# Altium integrated library Resistors.IntLib: 4954 symbols (part 11 of 32)
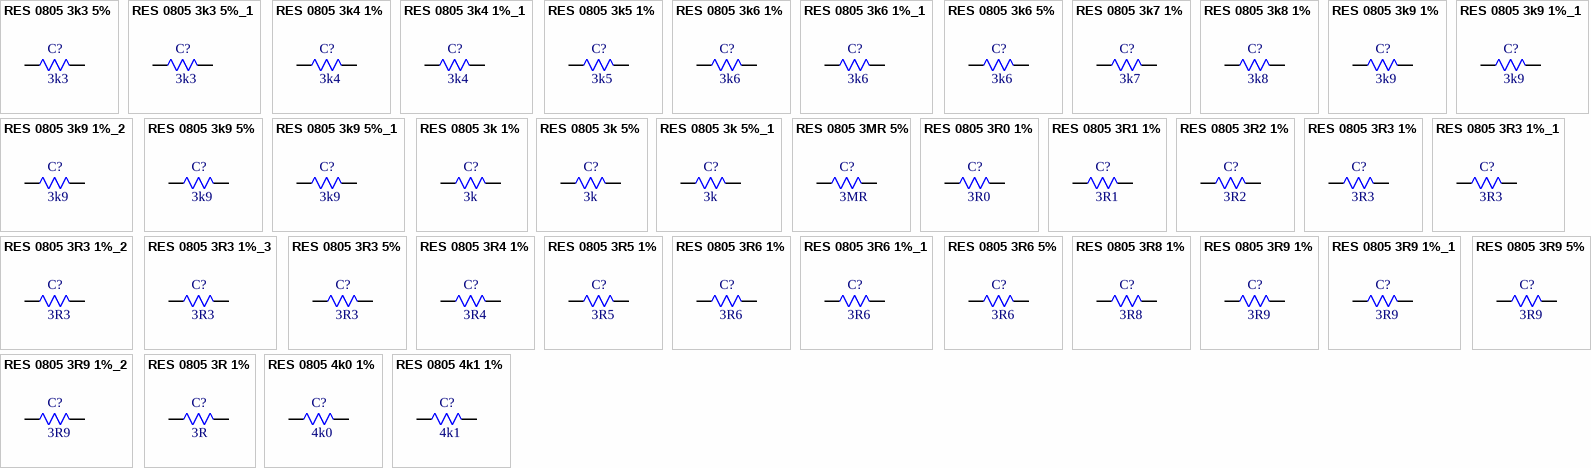
[diagram p133: symbols RES 0805 3k3 5% to RES 0805 4k1 1%]

## RES 0805 4k1 1%
designator C?, comment 4k1
4.12kR 1% 125mW 0805 Thick Film Resistor; Manufacturer: FOJAN; Manufacturer Part Number: FRC0805F4121TS; Voltage Rating: 150V; Supplier: LCSC; Supplier Part Number: C2960751; Resistance: 4k1; Tolerance: 1%; Power: 125mW
footprint RES SMD 0805
pins: 1, 2

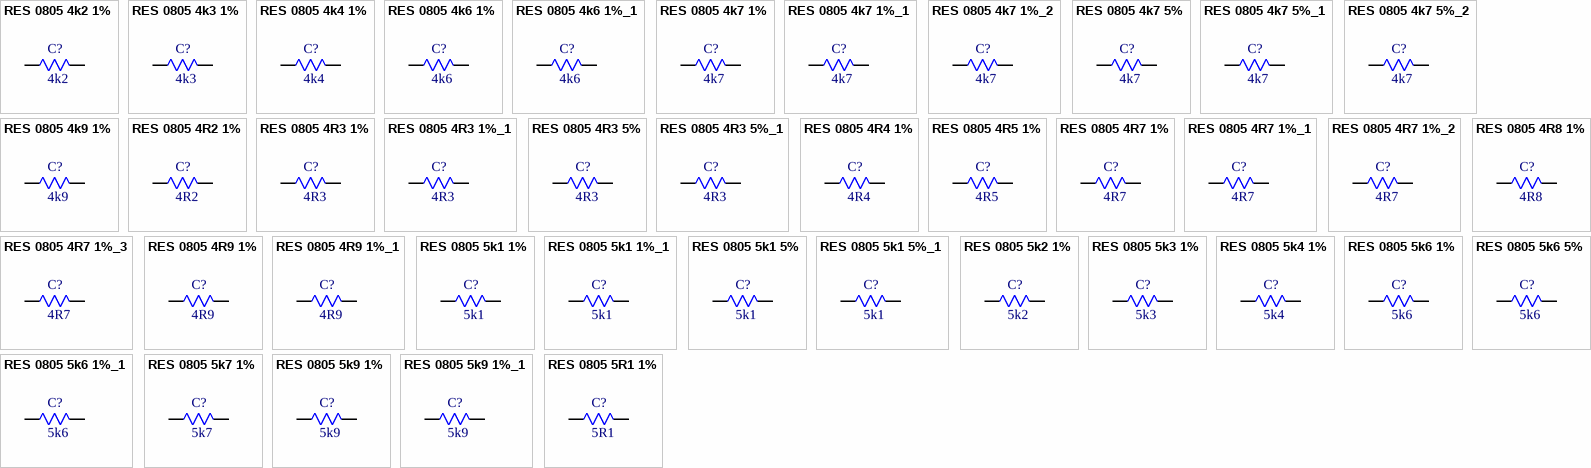
[diagram p40: symbols RES 0805 4k2 1% to RES 0805 5R1 1%]

## RES 0805 4k2 1%
designator C?, comment 4k2
4.22kR 1% 125mW 0805 Thick Film Resistor; Manufacturer: FOJAN; Manufacturer Part Number: FRC0805F4221TS; Voltage Rating: 150V; Supplier: LCSC; Supplier Part Number: C2933442; Resistance: 4k2; Tolerance: 1%; Power: 125mW
footprint RES SMD 0805
pins: 1, 2

## RES 0805 4k3 1%
designator C?, comment 4k3
4.32kR 1% 125mW 0805 Thick Film Resistor; Manufacturer: FOJAN; Manufacturer Part Number: FRC0805F4321TS; Voltage Rating: 150V; Supplier: LCSC; Supplier Part Number: C2999501; Resistance: 4k3; Tolerance: 1%; Power: 125mW
footprint RES SMD 0805
pins: 1, 2

## RES 0805 4k4 1%
designator C?, comment 4k4
4.42kR 1% 125mW 0805 Thick Film Resistor; Manufacturer: FOJAN; Manufacturer Part Number: FRC0805F4421TS; Voltage Rating: 150V; Supplier: LCSC; Supplier Part Number: C2960870; Resistance: 4k4; Tolerance: 1%; Power: 125mW
footprint RES SMD 0805
pins: 1, 2

## RES 0805 4k6 1%
designator C?, comment 4k6
4.6kR 1% 125mW 0805 Thick Film Resistor; Manufacturer: FOJAN; Manufacturer Part Number: FRC0805F4601TS; Voltage Rating: 150V; Supplier: LCSC; Supplier Part Number: C2933447; Resistance: 4k6; Tolerance: 1%; Power: 125mW
footprint RES SMD 0805
pins: 1, 2

## RES 0805 4k6 1%_1
designator C?, comment 4k6
4.64kR 1% 125mW 0805 Thick Film Resistor; Manufacturer: FOJAN; Manufacturer Part Number: FRC0805F4641TS; Voltage Rating: 150V; Supplier: LCSC; Supplier Part Number: C2933448; Resistance: 4k6; Tolerance: 1%; Power: 125mW
footprint RES SMD 0805
pins: 1, 2

## RES 0805 4k7 1%
designator C?, comment 4k7
4.7kR 1% 125mW 0805 Thick Film Resistor; Manufacturer: FOJAN; Manufacturer Part Number: FRC0805F4701TS; Voltage Rating: 150V; Supplier: LCSC; Supplier Part Number: C2907264; Resistance: 4k7; Tolerance: 1%; Power: 125mW
footprint RES SMD 0805
pins: 1, 2

## RES 0805 4k7 1%_1
designator C?, comment 4k7
4.75kR 1% 125mW 0805 Thick Film Resistor; Manufacturer: FOJAN; Manufacturer Part Number: FRC0805F4751TS; Voltage Rating: 150V; Supplier: LCSC; Supplier Part Number: C2933451; Resistance: 4k7; Tolerance: 1%; Power: 125mW
footprint RES SMD 0805
pins: 1, 2

## RES 0805 4k7 1%_2
designator C?, comment 4k7
125mW 4.7kR 150V Thick Film Resistor 100ppm/â„ƒ 1% 0805 Chip Resistor - Surface Mount RoHS; Manufacturer: FOJAN; Manufacturer Part Number: FRQ0805F4701TS; Supplier: LCSC; Supplier Part Number: C49196697; Resistance: 4k7; Tolerance: 1%; Voltage Rating: 150V; Power: 125mW
footprint RES SMD 0805
pins: 1, 2

## RES 0805 4k7 5%
designator C?, comment 4k7
4.7kR 5% 125mW 0805 Thick Film Resistor; Manufacturer: FOJAN; Manufacturer Part Number: FRC0805J472 TS; Voltage Rating: 150V; Supplier: LCSC; Supplier Part Number: C2907326; Resistance: 4k7; Tolerance: 5%; Power: 125mW
footprint RES SMD 0805
pins: 1, 2

## RES 0805 4k7 5%_1
designator C?, comment 4k7
4.7kR 5% 125mW 0805 Thick Film Resistor; Manufacturer: FOJAN; Manufacturer Part Number: FRD0805J472 TS; Voltage Rating: 150V; Supplier: LCSC; Supplier Part Number: C2934173; Resistance: 4k7; Tolerance: 5%; Power: 125mW
footprint RES SMD 0805
pins: 1, 2

## RES 0805 4k7 5%_2
designator C?, comment 4k7
125mW 4.7kR 150V Thick Film Resistor 5% 100ppm/â„ƒ 0805 Chip Resistor - Surface Mount RoHS; Manufacturer: FOJAN; Manufacturer Part Number: FRQ0805J472 TS; Supplier: LCSC; Supplier Part Number: C7468408; Resistance: 4k7; Tolerance: 5%; Voltage Rating: 150V; Power: 125mW
footprint RES SMD 0805
pins: 1, 2

## RES 0805 4k9 1%
designator C?, comment 4k9
4.99kR 1% 125mW 0805 Thick Film Resistor; Manufacturer: FOJAN; Manufacturer Part Number: FRC0805F4991TS; Voltage Rating: 150V; Supplier: LCSC; Supplier Part Number: C2933454; Resistance: 4k9; Tolerance: 1%; Power: 125mW
footprint RES SMD 0805
pins: 1, 2

## RES 0805 4R2 1%
designator C?, comment 4R2
4.22R 1% 125mW 0805 Thick Film Resistor; Manufacturer: FOJAN; Manufacturer Part Number: FRC0805F4R22TS; Voltage Rating: 150V; Supplier: LCSC; Supplier Part Number: C3013221; Resistance: 4R2; Tolerance: 1%; Power: 125mW
footprint RES SMD 0805
pins: 1, 2

## RES 0805 4R3 1%
designator C?, comment 4R3
4.3MR 1% 125mW 0805 Thick Film Resistor; Manufacturer: FOJAN; Manufacturer Part Number: FRC0805F4304TS; Voltage Rating: 150V; Supplier: LCSC; Supplier Part Number: C2933443; Resistance: 4R3; Tolerance: 1%; Power: 125mW
footprint RES SMD 0805
pins: 1, 2

## RES 0805 4R3 1%_1
designator C?, comment 4R3
4.3R 1% 125mW 0805 Thick Film Resistor; Manufacturer: FOJAN; Manufacturer Part Number: FRC0805F4R30TS; Voltage Rating: 150V; Supplier: LCSC; Supplier Part Number: C2933457; Resistance: 4R3; Tolerance: 1%; Power: 125mW
footprint RES SMD 0805
pins: 1, 2

## RES 0805 4R3 5%
designator C?, comment 4R3
4.3R 5% 125mW 0805 Thick Film Resistor; Manufacturer: FOJAN; Manufacturer Part Number: FRC0805J4R3TS; Voltage Rating: 150V; Supplier: LCSC; Supplier Part Number: C2930287; Resistance: 4R3; Tolerance: 5%; Power: 125mW
footprint RES SMD 0805
pins: 1, 2

## RES 0805 4R3 5%_1
designator C?, comment 4R3
4.3MR 5% 125mW 0805 Thick Film Resistor; Manufacturer: FOJAN; Manufacturer Part Number: FRC0805J435 TS; Voltage Rating: 150V; Supplier: LCSC; Supplier Part Number: C2933554; Resistance: 4R3; Tolerance: 5%; Power: 125mW
footprint RES SMD 0805
pins: 1, 2

## RES 0805 4R4 1%
designator C?, comment 4R4
4.42R 1% 125mW 0805 Thick Film Resistor; Manufacturer: FOJAN; Manufacturer Part Number: FRC0805F4R42TS; Voltage Rating: 150V; Supplier: LCSC; Supplier Part Number: C5713308; Resistance: 4R4; Tolerance: 1%; Power: 125mW
footprint RES SMD 0805
pins: 1, 2

## RES 0805 4R5 1%
designator C?, comment 4R5
4.53R 1% 125mW 0805 Thick Film Resistor; Manufacturer: FOJAN; Manufacturer Part Number: FRC0805F4R53TS; Voltage Rating: 150V; Supplier: LCSC; Supplier Part Number: C2999453; Resistance: 4R5; Tolerance: 1%; Power: 125mW
footprint RES SMD 0805
pins: 1, 2

## RES 0805 4R7 1%
designator C?, comment 4R7
4.7MR 1% 125mW 0805 Thick Film Resistor; Manufacturer: FOJAN; Manufacturer Part Number: FRC0805F4704TS; Voltage Rating: 150V; Supplier: LCSC; Supplier Part Number: C2933449; Resistance: 4R7; Tolerance: 1%; Power: 125mW
footprint RES SMD 0805
pins: 1, 2

## RES 0805 4R7 1%_1
designator C?, comment 4R7
250mW 4.7R 150V Thick Film Resistor 200ppm/â„ƒ 1% 0805 Chip Resistor - Surface Mount RoHS; Manufacturer: FOJAN; Manufacturer Part Number: FRP0805F4R70TS; Supplier: LCSC; Supplier Part Number: C49196883; Resistance: 4R7; Tolerance: 1%; Voltage Rating: 150V; Power: 250mW
footprint RES SMD 0805
pins: 1, 2

## RES 0805 4R7 1%_2
designator C?, comment 4R7
4.75R 1% 125mW 0805 Thick Film Resistor; Manufacturer: FOJAN; Manufacturer Part Number: FRC0805F4R75TS; Voltage Rating: 150V; Supplier: LCSC; Supplier Part Number: C2933460; Resistance: 4R7; Tolerance: 1%; Power: 125mW
footprint RES SMD 0805
pins: 1, 2

## RES 0805 4R7 1%_3
designator C?, comment 4R7
125mW 4.75MR 150V Thick Film Resistor 100ppm/â„ƒ 1% 0805 Chip Resistor - Surface Mount RoHS; Manufacturer: FOJAN; Manufacturer Part Number: FRC0805F4754TS; Supplier: LCSC; Supplier Part Number: C48533736; Resistance: 4R7; Tolerance: 1%; Voltage Rating: 150V; Power: 125mW
footprint RES SMD 0805
pins: 1, 2

## RES 0805 4R8 1%
designator C?, comment 4R8
4.87R 1% 125mW 0805 Thick Film Resistor; Manufacturer: FOJAN; Manufacturer Part Number: FRC0805F4R87TS; Voltage Rating: 150V; Supplier: LCSC; Supplier Part Number: C2960808; Resistance: 4R8; Tolerance: 1%; Power: 125mW
footprint RES SMD 0805
pins: 1, 2

## RES 0805 4R9 1%
designator C?, comment 4R9
4.99MR 1% 125mW 0805 Thick Film Resistor; Manufacturer: FOJAN; Manufacturer Part Number: FRC0805F4994TS; Voltage Rating: 150V; Supplier: LCSC; Supplier Part Number: C2930334; Resistance: 4R9; Tolerance: 1%; Power: 125mW
footprint RES SMD 0805
pins: 1, 2

## RES 0805 4R9 1%_1
designator C?, comment 4R9
4.99R 1% 125mW 0805 Thick Film Resistor; Manufacturer: FOJAN; Manufacturer Part Number: FRC0805F4R99TS; Voltage Rating: 150V; Supplier: LCSC; Supplier Part Number: C5121542; Resistance: 4R9; Tolerance: 1%; Power: 125mW
footprint RES SMD 0805
pins: 1, 2

## RES 0805 5k1 1%
designator C?, comment 5k1
5.1kR 1% 125mW 0805 Thick Film Resistor; Manufacturer: FOJAN; Manufacturer Part Number: FRC0805F5101TS; Voltage Rating: 150V; Supplier: LCSC; Supplier Part Number: C2907269; Resistance: 5k1; Tolerance: 1%; Power: 125mW
footprint RES SMD 0805
pins: 1, 2

## RES 0805 5k1 1%_1
designator C?, comment 5k1
125mW 5.1kR 150V Thick Film Resistor 100ppm/â„ƒ 1% 0805 Chip Resistor - Surface Mount RoHS; Manufacturer: FOJAN; Manufacturer Part Number: FRQ0805F5101TS; Supplier: LCSC; Supplier Part Number: C18222259; Resistance: 5k1; Tolerance: 1%; Voltage Rating: 150V; Power: 125mW
footprint RES SMD 0805
pins: 1, 2

## RES 0805 5k1 5%
designator C?, comment 5k1
5.1kR 5% 125mW 0805 Thick Film Resistor; Manufacturer: FOJAN; Manufacturer Part Number: FRC0805J512TS; Voltage Rating: 150V; Supplier: LCSC; Supplier Part Number: C2930296; Resistance: 5k1; Tolerance: 5%; Power: 125mW
footprint RES SMD 0805
pins: 1, 2

## RES 0805 5k1 5%_1
designator C?, comment 5k1
125mW 5.1kR 150V Thick Film Resistor 100ppm/â„ƒ 5% 0805 Chip Resistor - Surface Mount RoHS; Manufacturer: FOJAN; Manufacturer Part Number: FRR0805J512 TS; Supplier: LCSC; Supplier Part Number: C49196832; Resistance: 5k1; Tolerance: 5%; Voltage Rating: 150V; Power: 125mW
footprint RES SMD 0805
pins: 1, 2

## RES 0805 5k2 1%
designator C?, comment 5k2
5.23kR 1% 125mW 0805 Thick Film Resistor; Manufacturer: FOJAN; Manufacturer Part Number: FRC0805F5231TS; Voltage Rating: 150V; Supplier: LCSC; Supplier Part Number: C2933464; Resistance: 5k2; Tolerance: 1%; Power: 125mW
footprint RES SMD 0805
pins: 1, 2

## RES 0805 5k3 1%
designator C?, comment 5k3
5.36kR 1% 125mW 0805 Thick Film Resistor; Manufacturer: FOJAN; Manufacturer Part Number: FRC0805F5361TS; Voltage Rating: 150V; Supplier: LCSC; Supplier Part Number: C2999602; Resistance: 5k3; Tolerance: 1%; Power: 125mW
footprint RES SMD 0805
pins: 1, 2

## RES 0805 5k4 1%
designator C?, comment 5k4
5.49kR 1% 125mW 0805 Thick Film Resistor; Manufacturer: FOJAN; Manufacturer Part Number: FRC0805F5491TS; Voltage Rating: 150V; Supplier: LCSC; Supplier Part Number: C2933466; Resistance: 5k4; Tolerance: 1%; Power: 125mW
footprint RES SMD 0805
pins: 1, 2

## RES 0805 5k6 1%
designator C?, comment 5k6
5.6kR 1% 125mW 0805 Thick Film Resistor; Manufacturer: FOJAN; Manufacturer Part Number: FRC0805F5601TS; Voltage Rating: 150V; Supplier: LCSC; Supplier Part Number: C2907271; Resistance: 5k6; Tolerance: 1%; Power: 125mW
footprint RES SMD 0805
pins: 1, 2

## RES 0805 5k6 1%_1
designator C?, comment 5k6
5.62kR 1% 125mW 0805 Thick Film Resistor; Manufacturer: FOJAN; Manufacturer Part Number: FRC0805F5621TS; Voltage Rating: 150V; Supplier: LCSC; Supplier Part Number: C2933470; Resistance: 5k6; Tolerance: 1%; Power: 125mW
footprint RES SMD 0805
pins: 1, 2

## RES 0805 5k6 5%
designator C?, comment 5k6
5.6kR 5% 125mW 0805 Thick Film Resistor; Manufacturer: FOJAN; Manufacturer Part Number: FRC0805J562TS; Voltage Rating: 150V; Supplier: LCSC; Supplier Part Number: C2930298; Resistance: 5k6; Tolerance: 5%; Power: 125mW
footprint RES SMD 0805
pins: 1, 2

## RES 0805 5k7 1%
designator C?, comment 5k7
5.76kR 1% 125mW 0805 Thick Film Resistor; Manufacturer: FOJAN; Manufacturer Part Number: FRC0805F5761TS; Voltage Rating: 150V; Supplier: LCSC; Supplier Part Number: C3000533; Resistance: 5k7; Tolerance: 1%; Power: 125mW
footprint RES SMD 0805
pins: 1, 2

## RES 0805 5k9 1%
designator C?, comment 5k9
5.9kR 1% 125mW 0805 Thick Film Resistor AEC-Q200; Manufacturer: FOJAN; Manufacturer Part Number: FRQ0805F5901TS; Voltage Rating: 150V; Supplier: LCSC; Supplier Part Number: C5713450; Resistance: 5k9; Tolerance: 1%; Power: 125mW
footprint RES SMD 0805
pins: 1, 2

## RES 0805 5k9 1%_1
designator C?, comment 5k9
5.9kR 1% 125mW 0805 Thick Film Resistor; Manufacturer: FOJAN; Manufacturer Part Number: FRC0805F5901TS; Voltage Rating: 150V; Supplier: LCSC; Supplier Part Number: C2960714; Resistance: 5k9; Tolerance: 1%; Power: 125mW
footprint RES SMD 0805
pins: 1, 2

## RES 0805 5R1 1%
designator C?, comment 5R1
5.1R 1% 125mW 0805 Thick Film Resistor; Manufacturer: FOJAN; Manufacturer Part Number: FRC0805F5R10TS; Voltage Rating: 150V; Supplier: LCSC; Supplier Part Number: C2907270; Resistance: 5R1; Tolerance: 1%; Power: 125mW
footprint RES SMD 0805
pins: 1, 2

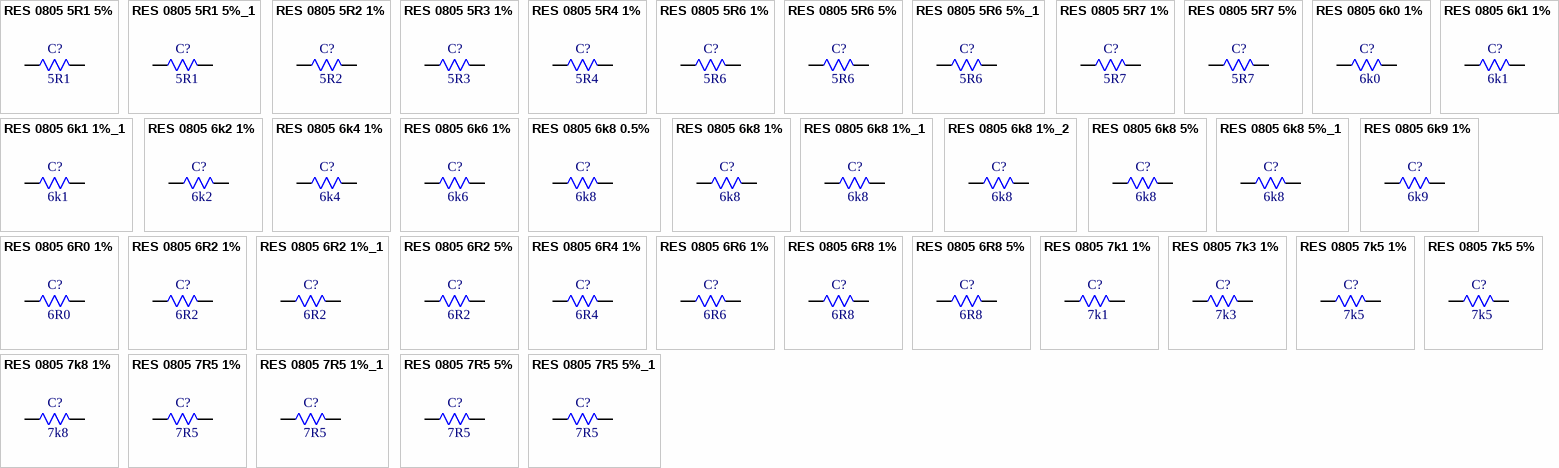
[diagram p41: symbols RES 0805 5R1 5% to RES 0805 7R5 5%_1]

## RES 0805 5R1 5%
designator C?, comment 5R1
5.1R 5% 125mW 0805 Thick Film Resistor; Manufacturer: FOJAN; Manufacturer Part Number: FRC0805J5R1TS; Voltage Rating: 150V; Supplier: LCSC; Supplier Part Number: C2930297; Resistance: 5R1; Tolerance: 5%; Power: 125mW
footprint RES SMD 0805
pins: 1, 2

## RES 0805 5R1 5%_1
designator C?, comment 5R1
5.1MR 5% 125mW 0805 Thick Film Resistor; Manufacturer: FOJAN; Manufacturer Part Number: FRC0805J515 TS; Voltage Rating: 150V; Supplier: LCSC; Supplier Part Number: C2933555; Resistance: 5R1; Tolerance: 5%; Power: 125mW
footprint RES SMD 0805
pins: 1, 2

## RES 0805 5R2 1%
designator C?, comment 5R2
5.23R 1% 125mW 0805 Thick Film Resistor; Manufacturer: FOJAN; Manufacturer Part Number: FRC0805F5R23TS; Voltage Rating: 150V; Supplier: LCSC; Supplier Part Number: C2933474; Resistance: 5R2; Tolerance: 1%; Power: 125mW
footprint RES SMD 0805
pins: 1, 2

## RES 0805 5R3 1%
designator C?, comment 5R3
5.36R 1% 125mW 0805 Thick Film Resistor; Manufacturer: FOJAN; Manufacturer Part Number: FRC0805F5R36TS; Voltage Rating: 150V; Supplier: LCSC; Supplier Part Number: C3013224; Resistance: 5R3; Tolerance: 1%; Power: 125mW
footprint RES SMD 0805
pins: 1, 2

## RES 0805 5R4 1%
designator C?, comment 5R4
5.49R 1% 125mW 0805 Thick Film Resistor; Manufacturer: FOJAN; Manufacturer Part Number: FRC0805F5R49TS; Voltage Rating: 150V; Supplier: LCSC; Supplier Part Number: C2933475; Resistance: 5R4; Tolerance: 1%; Power: 125mW
footprint RES SMD 0805
pins: 1, 2

## RES 0805 5R6 1%
designator C?, comment 5R6
5.6R 1% 125mW 0805 Thick Film Resistor; Manufacturer: FOJAN; Manufacturer Part Number: FRC0805F5R60TS; Voltage Rating: 150V; Supplier: LCSC; Supplier Part Number: C2907272; Resistance: 5R6; Tolerance: 1%; Power: 125mW
footprint RES SMD 0805
pins: 1, 2

## RES 0805 5R6 5%
designator C?, comment 5R6
5.6R 5% 125mW 0805 Thick Film Resistor; Manufacturer: FOJAN; Manufacturer Part Number: FRC0805J5R6 TS; Voltage Rating: 150V; Supplier: LCSC; Supplier Part Number: C2933557; Resistance: 5R6; Tolerance: 5%; Power: 125mW
footprint RES SMD 0805
pins: 1, 2

## RES 0805 5R6 5%_1
designator C?, comment 5R6
5.6MR 5% 125mW 0805 Thick Film Resistor; Manufacturer: FOJAN; Manufacturer Part Number: FRC0805J565 TS; Voltage Rating: 150V; Supplier: LCSC; Supplier Part Number: C2960763; Resistance: 5R6; Tolerance: 5%; Power: 125mW
footprint RES SMD 0805
pins: 1, 2

## RES 0805 5R7 1%
designator C?, comment 5R7
5.76R 1% 125mW 0805 Thick Film Resistor; Manufacturer: FOJAN; Manufacturer Part Number: FRC0805F5R76TS; Voltage Rating: 150V; Supplier: LCSC; Supplier Part Number: C3013225; Resistance: 5R7; Tolerance: 1%; Power: 125mW
footprint RES SMD 0805
pins: 1, 2

## RES 0805 5R7 5%
designator C?, comment 5R7
5.7R 5% 125mW 0805 Thick Film Resistor; Manufacturer: FOJAN; Manufacturer Part Number: FRC0805J5R7 TS; Voltage Rating: 150V; Supplier: LCSC; Supplier Part Number: C2933558; Resistance: 5R7; Tolerance: 5%; Power: 125mW
footprint RES SMD 0805
pins: 1, 2

## RES 0805 6k0 1%
designator C?, comment 6k0
6.04kR 1% 125mW 0805 Thick Film Resistor; Manufacturer: FOJAN; Manufacturer Part Number: FRC0805F6041TS; Voltage Rating: 150V; Supplier: LCSC; Supplier Part Number: C2933476; Resistance: 6k0; Tolerance: 1%; Power: 125mW
footprint RES SMD 0805
pins: 1, 2

## RES 0805 6k1 1%
designator C?, comment 6k1
125mW 6.19kR 150V Thick Film Resistor 100ppm/â„ƒ 1% 0805 Chip Resistor - Surface Mount RoHS; Manufacturer: FOJAN; Manufacturer Part Number: FRQ0805F6191TS; Supplier: LCSC; Supplier Part Number: C49010137; Resistance: 6k1; Tolerance: 1%; Voltage Rating: 150V; Power: 125mW
footprint RES SMD 0805
pins: 1, 2

## RES 0805 6k1 1%_1
designator C?, comment 6k1
6.19kR 1% 125mW 0805 Thick Film Resistor; Manufacturer: FOJAN; Manufacturer Part Number: FRC0805F6191TS; Voltage Rating: 150V; Supplier: LCSC; Supplier Part Number: C2933480; Resistance: 6k1; Tolerance: 1%; Power: 125mW
footprint RES SMD 0805
pins: 1, 2

## RES 0805 6k2 1%
designator C?, comment 6k2
6.2kR 1% 125mW 0805 Thick Film Resistor; Manufacturer: FOJAN; Manufacturer Part Number: FRC0805F6201TS; Voltage Rating: 150V; Supplier: LCSC; Supplier Part Number: C2907275; Resistance: 6k2; Tolerance: 1%; Power: 125mW
footprint RES SMD 0805
pins: 1, 2

## RES 0805 6k4 1%
designator C?, comment 6k4
6.49kR 1% 125mW 0805 Thick Film Resistor; Manufacturer: FOJAN; Manufacturer Part Number: FRC0805F6491TS; Voltage Rating: 150V; Supplier: LCSC; Supplier Part Number: C2933484; Resistance: 6k4; Tolerance: 1%; Power: 125mW
footprint RES SMD 0805
pins: 1, 2

## RES 0805 6k6 1%
designator C?, comment 6k6
6.65kR 1% 125mW 0805 Thick Film Resistor; Manufacturer: FOJAN; Manufacturer Part Number: FRC0805F6651TS; Voltage Rating: 150V; Supplier: LCSC; Supplier Part Number: C2960721; Resistance: 6k6; Tolerance: 1%; Power: 125mW
footprint RES SMD 0805
pins: 1, 2

## RES 0805 6k8 0.5%
designator C?, comment 6k8
6.8kR 0.5% 125mW 0805 Thick Film Resistor; Manufacturer: FOJAN; Manufacturer Part Number: FRH0805D6801TS; Voltage Rating: 150V; Supplier: LCSC; Supplier Part Number: C5713387; Resistance: 6k8; Tolerance: 0.5%; Power: 125mW
footprint RES SMD 0805
pins: 1, 2

## RES 0805 6k8 1%
designator C?, comment 6k8
6.8kR 1% 125mW 0805 Thick Film Resistor; Manufacturer: FOJAN; Manufacturer Part Number: FRC0805F6801TS; Voltage Rating: 150V; Supplier: LCSC; Supplier Part Number: C2907276; Resistance: 6k8; Tolerance: 1%; Power: 125mW
footprint RES SMD 0805
pins: 1, 2

## RES 0805 6k8 1%_1
designator C?, comment 6k8
125mW 6.8kR Thick Film Resistor 1% 100ppm/â„ƒ 0805 Chip Resistor - Surface Mount RoHS; Manufacturer: FOJAN; Manufacturer Part Number: FRQ0805F6801TS; Supplier: LCSC; Supplier Part Number: C7468562; Resistance: 6k8; Tolerance: 1%; Power: 125mW
footprint RES SMD 0805
pins: 1, 2

## RES 0805 6k8 1%_2
designator C?, comment 6k8
6.81kR 1% 125mW 0805 Thick Film Resistor; Manufacturer: FOJAN; Manufacturer Part Number: FRC0805F6811TS; Voltage Rating: 150V; Supplier: LCSC; Supplier Part Number: C5154020; Resistance: 6k8; Tolerance: 1%; Power: 125mW
footprint RES SMD 0805
pins: 1, 2

## RES 0805 6k8 5%
designator C?, comment 6k8
6.8kR 5% 125mW 0805 Thick Film Resistor; Manufacturer: FOJAN; Manufacturer Part Number: FRC0805J682 TS; Voltage Rating: 150V; Supplier: LCSC; Supplier Part Number: C2907338; Resistance: 6k8; Tolerance: 5%; Power: 125mW
footprint RES SMD 0805
pins: 1, 2

## RES 0805 6k8 5%_1
designator C?, comment 6k8
125mW 6.8kR Thick Film Resistor 5% 100ppm/â„ƒ 0805 Chip Resistor - Surface Mount RoHS; Manufacturer: FOJAN; Manufacturer Part Number: FRQ0805J682 TS; Supplier: LCSC; Supplier Part Number: C7468476; Resistance: 6k8; Tolerance: 5%; Power: 125mW
footprint RES SMD 0805
pins: 1, 2

## RES 0805 6k9 1%
designator C?, comment 6k9
6.98kR 1% 125mW 0805 Thick Film Resistor; Manufacturer: FOJAN; Manufacturer Part Number: FRC0805F6981TS; Voltage Rating: 150V; Supplier: LCSC; Supplier Part Number: C2933489; Resistance: 6k9; Tolerance: 1%; Power: 125mW
footprint RES SMD 0805
pins: 1, 2

## RES 0805 6R0 1%
designator C?, comment 6R0
6.04R 1% 125mW 0805 Thick Film Resistor; Manufacturer: FOJAN; Manufacturer Part Number: FRC0805F6R04TS; Voltage Rating: 150V; Supplier: LCSC; Supplier Part Number: C3000734; Resistance: 6R0; Tolerance: 1%; Power: 125mW
footprint RES SMD 0805
pins: 1, 2

## RES 0805 6R2 1%
designator C?, comment 6R2
6.2R 1% 125mW 0805 Thick Film Resistor; Manufacturer: FOJAN; Manufacturer Part Number: FRC0805F6R20TS; Voltage Rating: 150V; Supplier: LCSC; Supplier Part Number: C2933490; Resistance: 6R2; Tolerance: 1%; Power: 125mW
footprint RES SMD 0805
pins: 1, 2

## RES 0805 6R2 1%_1
designator C?, comment 6R2
6.2MR 1% 125mW 0805 Thick Film Resistor; Manufacturer: FOJAN; Manufacturer Part Number: FRC0805F6204TS; Voltage Rating: 150V; Supplier: LCSC; Supplier Part Number: C5126076; Resistance: 6R2; Tolerance: 1%; Power: 125mW
footprint RES SMD 0805
pins: 1, 2

## RES 0805 6R2 5%
designator C?, comment 6R2
6.2R 5% 125mW 0805 Thick Film Resistor; Manufacturer: FOJAN; Manufacturer Part Number: FRC0805J6R2 TS; Voltage Rating: 150V; Supplier: LCSC; Supplier Part Number: C2933565; Resistance: 6R2; Tolerance: 5%; Power: 125mW
footprint RES SMD 0805
pins: 1, 2

## RES 0805 6R4 1%
designator C?, comment 6R4
6.49R 1% 125mW 0805 Thick Film Resistor; Manufacturer: FOJAN; Manufacturer Part Number: FRC0805F6R49TS; Voltage Rating: 150V; Supplier: LCSC; Supplier Part Number: C2933491; Resistance: 6R4; Tolerance: 1%; Power: 125mW
footprint RES SMD 0805
pins: 1, 2

## RES 0805 6R6 1%
designator C?, comment 6R6
6.65MR 1% 125mW 0805 Thick Film Resistor; Manufacturer: FOJAN; Manufacturer Part Number: FRC0805F6654TS; Voltage Rating: 150V; Supplier: LCSC; Supplier Part Number: C5126108; Resistance: 6R6; Tolerance: 1%; Power: 125mW
footprint RES SMD 0805
pins: 1, 2

## RES 0805 6R8 1%
designator C?, comment 6R8
6.8MR 1% 125mW 0805 Thick Film Resistor; Manufacturer: FOJAN; Manufacturer Part Number: FRC0805F6804TS; Voltage Rating: 150V; Supplier: LCSC; Supplier Part Number: C5159722; Resistance: 6R8; Tolerance: 1%; Power: 125mW
footprint RES SMD 0805
pins: 1, 2

## RES 0805 6R8 5%
designator C?, comment 6R8
6.8R 5% 125mW 0805 Thick Film Resistor; Manufacturer: FOJAN; Manufacturer Part Number: FRC0805J6R8 TS; Voltage Rating: 150V; Supplier: LCSC; Supplier Part Number: C2907339; Resistance: 6R8; Tolerance: 5%; Power: 125mW
footprint RES SMD 0805
pins: 1, 2

## RES 0805 7k1 1%
designator C?, comment 7k1
7.15kR 1% 125mW 0805 Thick Film Resistor; Manufacturer: FOJAN; Manufacturer Part Number: FRC0805F7151TS; Voltage Rating: 150V; Supplier: LCSC; Supplier Part Number: C2933492; Resistance: 7k1; Tolerance: 1%; Power: 125mW
footprint RES SMD 0805
pins: 1, 2

## RES 0805 7k3 1%
designator C?, comment 7k3
7.32kR 1% 125mW 0805 Thick Film Resistor; Manufacturer: FOJAN; Manufacturer Part Number: FRC0805F7321TS; Voltage Rating: 150V; Supplier: LCSC; Supplier Part Number: C2933494; Resistance: 7k3; Tolerance: 1%; Power: 125mW
footprint RES SMD 0805
pins: 1, 2

## RES 0805 7k5 1%
designator C?, comment 7k5
7.5kR 1% 125mW 0805 Thick Film Resistor; Manufacturer: FOJAN; Manufacturer Part Number: FRC0805F7501TS; Voltage Rating: 150V; Supplier: LCSC; Supplier Part Number: C2933495; Resistance: 7k5; Tolerance: 1%; Power: 125mW
footprint RES SMD 0805
pins: 1, 2

## RES 0805 7k5 5%
designator C?, comment 7k5
7.5kR 5% 125mW 0805 Thick Film Resistor; Manufacturer: FOJAN; Manufacturer Part Number: FRC0805J752TS; Voltage Rating: 150V; Supplier: LCSC; Supplier Part Number: C2930310; Resistance: 7k5; Tolerance: 5%; Power: 125mW
footprint RES SMD 0805
pins: 1, 2

## RES 0805 7k8 1%
designator C?, comment 7k8
7.87kR 1% 125mW 0805 Thick Film Resistor; Manufacturer: FOJAN; Manufacturer Part Number: FRC0805F7871TS; Voltage Rating: 150V; Supplier: LCSC; Supplier Part Number: C2960762; Resistance: 7k8; Tolerance: 1%; Power: 125mW
footprint RES SMD 0805
pins: 1, 2

## RES 0805 7R5 1%
designator C?, comment 7R5
7.5R 1% 125mW 0805 Thick Film Resistor; Manufacturer: FOJAN; Manufacturer Part Number: FRC0805F7R50TS; Voltage Rating: 150V; Supplier: LCSC; Supplier Part Number: C2907284; Resistance: 7R5; Tolerance: 1%; Power: 125mW
footprint RES SMD 0805
pins: 1, 2

## RES 0805 7R5 1%_1
designator C?, comment 7R5
7.5MR 1% 125mW 0805 Thick Film Resistor; Manufacturer: FOJAN; Manufacturer Part Number: FRC0805F7504TS; Voltage Rating: 150V; Supplier: LCSC; Supplier Part Number: C5154021; Resistance: 7R5; Tolerance: 1%; Power: 125mW
footprint RES SMD 0805
pins: 1, 2

## RES 0805 7R5 5%
designator C?, comment 7R5
7.5MR 5% 125mW 0805 Thick Film Resistor; Manufacturer: FOJAN; Manufacturer Part Number: FRC0805J755 TS; Voltage Rating: 150V; Supplier: LCSC; Supplier Part Number: C2933569; Resistance: 7R5; Tolerance: 5%; Power: 125mW
footprint RES SMD 0805
pins: 1, 2

## RES 0805 7R5 5%_1
designator C?, comment 7R5
7.5R 5% 125mW 0805 Thick Film Resistor; Manufacturer: FOJAN; Manufacturer Part Number: FRC0805J7R5 TS; Voltage Rating: 150V; Supplier: LCSC; Supplier Part Number: C2933570; Resistance: 7R5; Tolerance: 5%; Power: 125mW
footprint RES SMD 0805
pins: 1, 2

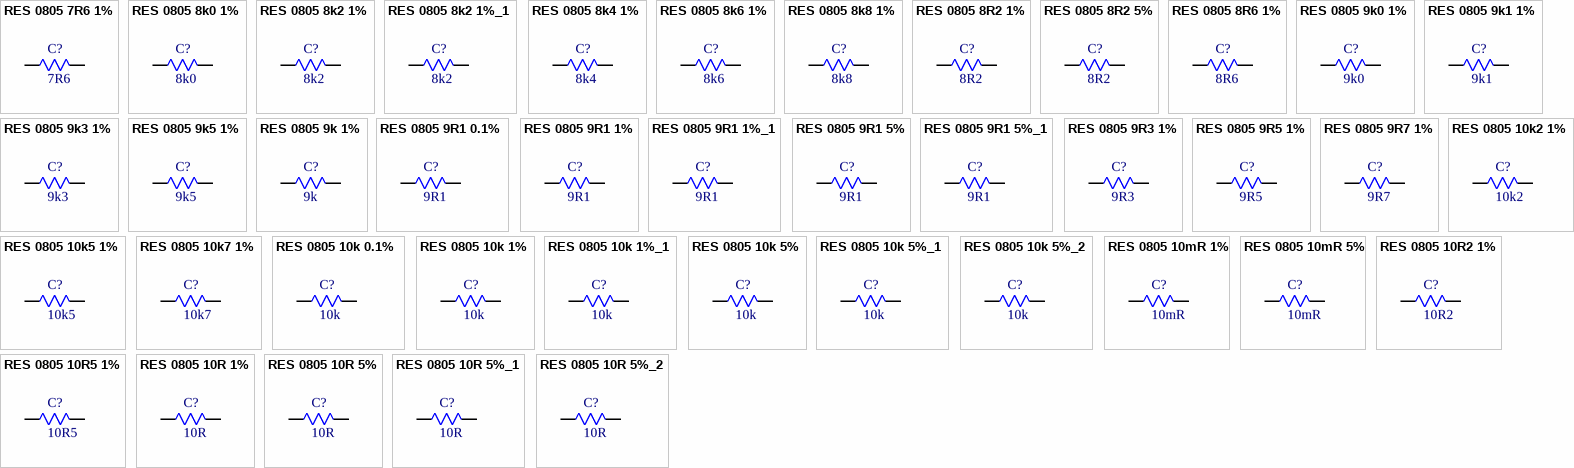
[diagram p42: symbols RES 0805 7R6 1% to RES 0805 10R 5%_2]

## RES 0805 7R6 1%
designator C?, comment 7R6
125mW 7.68R 150V Thick Film Resistor 200ppm/â„ƒ 1% 0805 Chip Resistor - Surface Mount RoHS; Manufacturer: FOJAN; Manufacturer Part Number: FRC0805F7R68TS; Supplier: LCSC; Supplier Part Number: C7467353; Resistance: 7R6; Tolerance: 1%; Voltage Rating: 150V; Power: 125mW
footprint RES SMD 0805
pins: 1, 2

## RES 0805 8k0 1%
designator C?, comment 8k0
8.06kR 1% 125mW 0805 Thick Film Resistor; Manufacturer: FOJAN; Manufacturer Part Number: FRC0805F8061TS; Voltage Rating: 150V; Supplier: LCSC; Supplier Part Number: C2933501; Resistance: 8k0; Tolerance: 1%; Power: 125mW
footprint RES SMD 0805
pins: 1, 2

## RES 0805 8k2 1%
designator C?, comment 8k2
8.2kR 1% 125mW 0805 Thick Film Resistor; Manufacturer: FOJAN; Manufacturer Part Number: FRC0805F8201TS; Voltage Rating: 150V; Supplier: LCSC; Supplier Part Number: C2933503; Resistance: 8k2; Tolerance: 1%; Power: 125mW
footprint RES SMD 0805
pins: 1, 2

## RES 0805 8k2 1%_1
designator C?, comment 8k2
8.25kR 1% 125mW 0805 Thick Film Resistor; Manufacturer: FOJAN; Manufacturer Part Number: FRC0805F8251TS; Voltage Rating: 150V; Supplier: LCSC; Supplier Part Number: C3000539; Resistance: 8k2; Tolerance: 1%; Power: 125mW
footprint RES SMD 0805
pins: 1, 2

## RES 0805 8k4 1%
designator C?, comment 8k4
8.45kR 1% 125mW 0805 Thick Film Resistor; Manufacturer: FOJAN; Manufacturer Part Number: FRC0805F8451TS; Voltage Rating: 150V; Supplier: LCSC; Supplier Part Number: C2933505; Resistance: 8k4; Tolerance: 1%; Power: 125mW
footprint RES SMD 0805
pins: 1, 2

## RES 0805 8k6 1%
designator C?, comment 8k6
8.66kR 1% 125mW 0805 Thick Film Resistor; Manufacturer: FOJAN; Manufacturer Part Number: FRC0805F8661TS; Voltage Rating: 150V; Supplier: LCSC; Supplier Part Number: C2933506; Resistance: 8k6; Tolerance: 1%; Power: 125mW
footprint RES SMD 0805
pins: 1, 2

## RES 0805 8k8 1%
designator C?, comment 8k8
8.87kR 1% 125mW 0805 Thick Film Resistor; Manufacturer: FOJAN; Manufacturer Part Number: FRC0805F8871TS; Voltage Rating: 150V; Supplier: LCSC; Supplier Part Number: C5121548; Resistance: 8k8; Tolerance: 1%; Power: 125mW
footprint RES SMD 0805
pins: 1, 2

## RES 0805 8R2 1%
designator C?, comment 8R2
8.2MR 1% 125mW 0805 Thick Film Resistor; Manufacturer: FOJAN; Manufacturer Part Number: FRC0805F8204TS; Voltage Rating: 150V; Supplier: LCSC; Supplier Part Number: C5204016; Resistance: 8R2; Tolerance: 1%; Power: 125mW
footprint RES SMD 0805
pins: 1, 2

## RES 0805 8R2 5%
designator C?, comment 8R2
8.2MR 5% 125mW 0805 Thick Film Resistor; Manufacturer: FOJAN; Manufacturer Part Number: FRC0805J825 TS; Voltage Rating: 150V; Supplier: LCSC; Supplier Part Number: C2933572; Resistance: 8R2; Tolerance: 5%; Power: 125mW
footprint RES SMD 0805
pins: 1, 2

## RES 0805 8R6 1%
designator C?, comment 8R6
8.66R 1% 125mW 0805 Thick Film Resistor; Manufacturer: FOJAN; Manufacturer Part Number: FRC0805F8R66TS; Voltage Rating: 150V; Supplier: LCSC; Supplier Part Number: C3000583; Resistance: 8R6; Tolerance: 1%; Power: 125mW
footprint RES SMD 0805
pins: 1, 2

## RES 0805 9k0 1%
designator C?, comment 9k0
9.09kR 1% 125mW 0805 Thick Film Resistor; Manufacturer: FOJAN; Manufacturer Part Number: FRC0805F9091TS; Voltage Rating: 150V; Supplier: LCSC; Supplier Part Number: C2930209; Resistance: 9k0; Tolerance: 1%; Power: 125mW
footprint RES SMD 0805
pins: 1, 2

## RES 0805 9k1 1%
designator C?, comment 9k1
9.1kR 1% 125mW 0805 Thick Film Resistor; Manufacturer: FOJAN; Manufacturer Part Number: FRC0805F9101TS; Voltage Rating: 150V; Supplier: LCSC; Supplier Part Number: C2930210; Resistance: 9k1; Tolerance: 1%; Power: 125mW
footprint RES SMD 0805
pins: 1, 2

## RES 0805 9k3 1%
designator C?, comment 9k3
9.31kR 1% 125mW 0805 Thick Film Resistor; Manufacturer: FOJAN; Manufacturer Part Number: FRC0805F9311TS; Voltage Rating: 150V; Supplier: LCSC; Supplier Part Number: C2960841; Resistance: 9k3; Tolerance: 1%; Power: 125mW
footprint RES SMD 0805
pins: 1, 2

## RES 0805 9k5 1%
designator C?, comment 9k5
9.53kR 1% 125mW 0805 Thick Film Resistor; Manufacturer: FOJAN; Manufacturer Part Number: FRC0805F9531TS; Voltage Rating: 150V; Supplier: LCSC; Supplier Part Number: C2960720; Resistance: 9k5; Tolerance: 1%; Power: 125mW
footprint RES SMD 0805
pins: 1, 2

## RES 0805 9k 1%
designator C?, comment 9k
9kR 1% 125mW 0805 Thick Film Resistor; Manufacturer: FOJAN; Manufacturer Part Number: FRC0805F9001TS; Voltage Rating: 150V; Supplier: LCSC; Supplier Part Number: C2930212; Resistance: 9k; Tolerance: 1%; Power: 125mW
footprint RES SMD 0805
pins: 1, 2

## RES 0805 9R1 0.1%
designator C?, comment 9R1
125mW 9.1MR 150V Thick Film Resistor 100ppm/â„ƒ 0.1% 0805 Chip Resistor - Surface Mount RoHS; Manufacturer: FOJAN; Manufacturer Part Number: FRH0805B9104TS; Supplier: LCSC; Supplier Part Number: C49196878; Resistance: 9R1; Tolerance: 0.1%; Voltage Rating: 150V; Power: 125mW
footprint RES SMD 0805
pins: 1, 2

## RES 0805 9R1 1%
designator C?, comment 9R1
9.1MR 1% 125mW 0805 Thick Film Resistor; Manufacturer: FOJAN; Manufacturer Part Number: FRC0805F9104TS; Voltage Rating: 150V; Supplier: LCSC; Supplier Part Number: C5159725; Resistance: 9R1; Tolerance: 1%; Power: 125mW
footprint RES SMD 0805
pins: 1, 2

## RES 0805 9R1 1%_1
designator C?, comment 9R1
9.1R 1% 125mW 0805 Thick Film Resistor; Manufacturer: FOJAN; Manufacturer Part Number: FRC0805F9R10TS; Voltage Rating: 150V; Supplier: LCSC; Supplier Part Number: C2933515; Resistance: 9R1; Tolerance: 1%; Power: 125mW
footprint RES SMD 0805
pins: 1, 2

## RES 0805 9R1 5%
designator C?, comment 9R1
9.1R 5% 125mW 0805 Thick Film Resistor; Manufacturer: FOJAN; Manufacturer Part Number: FRC0805J9R1TS; Voltage Rating: 150V; Supplier: LCSC; Supplier Part Number: C2930319; Resistance: 9R1; Tolerance: 5%; Power: 125mW
footprint RES SMD 0805
pins: 1, 2

## RES 0805 9R1 5%_1
designator C?, comment 9R1
9.1MR 5% 125mW 0805 Thick Film Resistor; Manufacturer: FOJAN; Manufacturer Part Number: FRC0805J915TS; Voltage Rating: 150V; Supplier: LCSC; Supplier Part Number: C2930318; Resistance: 9R1; Tolerance: 5%; Power: 125mW
footprint RES SMD 0805
pins: 1, 2

## RES 0805 9R3 1%
designator C?, comment 9R3
9.31R 1% 125mW 0805 Thick Film Resistor; Manufacturer: FOJAN; Manufacturer Part Number: FRC0805F9R31TS; Voltage Rating: 150V; Supplier: LCSC; Supplier Part Number: C5126058; Resistance: 9R3; Tolerance: 1%; Power: 125mW
footprint RES SMD 0805
pins: 1, 2

## RES 0805 9R5 1%
designator C?, comment 9R5
9.53R 1% 125mW 0805 Thick Film Resistor; Manufacturer: FOJAN; Manufacturer Part Number: FRC0805F9R53TS; Voltage Rating: 150V; Supplier: LCSC; Supplier Part Number: C5159726; Resistance: 9R5; Tolerance: 1%; Power: 125mW
footprint RES SMD 0805
pins: 1, 2

## RES 0805 9R7 1%
designator C?, comment 9R7
9.76R 1% 125mW 0805 Thick Film Resistor; Manufacturer: FOJAN; Manufacturer Part Number: FRC0805F9R76TS; Voltage Rating: 150V; Supplier: LCSC; Supplier Part Number: C2960741; Resistance: 9R7; Tolerance: 1%; Power: 125mW
footprint RES SMD 0805
pins: 1, 2

## RES 0805 10k2 1%
designator C?, comment 10k2
10.2kR 1% 125mW 0805 Thick Film Resistor; Manufacturer: FOJAN; Manufacturer Part Number: FRC0805F1022TS; Voltage Rating: 150V; Supplier: LCSC; Supplier Part Number: C2933282; Resistance: 10k2; Tolerance: 1%; Power: 125mW
footprint RES SMD 0805
pins: 1, 2

## RES 0805 10k5 1%
designator C?, comment 10k5
10.5kR 1% 125mW 0805 Thick Film Resistor; Manufacturer: FOJAN; Manufacturer Part Number: FRC0805F1052TS; Voltage Rating: 150V; Supplier: LCSC; Supplier Part Number: C2960821; Resistance: 10k5; Tolerance: 1%; Power: 125mW
footprint RES SMD 0805
pins: 1, 2

## RES 0805 10k7 1%
designator C?, comment 10k7
10.7kR 1% 125mW 0805 Thick Film Resistor; Manufacturer: FOJAN; Manufacturer Part Number: FRC0805F1072TS; Voltage Rating: 150V; Supplier: LCSC; Supplier Part Number: C2930164; Resistance: 10k7; Tolerance: 1%; Power: 125mW
footprint RES SMD 0805
pins: 1, 2

## RES 0805 10k 0.1%
designator C?, comment 10k
10kR 0.1% 125mW 0805 Thick Film Resistor; Manufacturer: FOJAN; Manufacturer Part Number: FRH0805B1002TS; Voltage Rating: 150V; Supplier: LCSC; Supplier Part Number: C5159707; Resistance: 10k; Tolerance: 0.1%; Power: 125mW
footprint RES SMD 0805
pins: 1, 2

## RES 0805 10k 1%
designator C?, comment 10k
10kR 1% 125mW 0805 Thick Film Resistor; Manufacturer: FOJAN; Manufacturer Part Number: FRC0805F1002TS; Voltage Rating: 150V; Supplier: LCSC; Supplier Part Number: C2907219; Resistance: 10k; Tolerance: 1%; Power: 125mW
footprint RES SMD 0805
pins: 1, 2

## RES 0805 10k 1%_1
designator C?, comment 10k
10kR 1% 125mW 0805 Thick Film Resistor AEC-Q200; Manufacturer: FOJAN; Manufacturer Part Number: FRQ0805F1002TS; Voltage Rating: 150V; Supplier: LCSC; Supplier Part Number: C5159708; Resistance: 10k; Tolerance: 1%; Power: 125mW
footprint RES SMD 0805
pins: 1, 2

## RES 0805 10k 5%
designator C?, comment 10k
10kR 5% 125mW 0805 Thick Film Resistor; Manufacturer: FOJAN; Manufacturer Part Number: FRC0805J103TS; Voltage Rating: 150V; Supplier: LCSC; Supplier Part Number: C2930231; Resistance: 10k; Tolerance: 5%; Power: 125mW
footprint RES SMD 0805
pins: 1, 2

## RES 0805 10k 5%_1
designator C?, comment 10k
125mW 10kR 150V Thick Film Resistor 100ppm/â„ƒ 5% 0805 Chip Resistor - Surface Mount RoHS; Manufacturer: FOJAN; Manufacturer Part Number: FRR0805J103 TS; Supplier: LCSC; Supplier Part Number: C49196826; Resistance: 10k; Tolerance: 5%; Voltage Rating: 150V; Power: 125mW
footprint RES SMD 0805
pins: 1, 2

## RES 0805 10k 5%_2
designator C?, comment 10k
125mW 10kR Thick Film Resistor 5% 100ppm/â„ƒ 0805 Chip Resistor - Surface Mount RoHS; Manufacturer: FOJAN; Manufacturer Part Number: FRQ0805J103 TS; Supplier: LCSC; Supplier Part Number: C7468432; Resistance: 10k; Tolerance: 5%; Power: 125mW
footprint RES SMD 0805
pins: 1, 2

## RES 0805 10mR 1%
designator C?, comment 10mR
125mW 10mR Thick Film Resistor 1% 0805 Chip Resistor - Surface Mount RoHS; Manufacturer: FOJAN; Manufacturer Part Number: FRL0805FR010TS; Supplier: LCSC; Supplier Part Number: C7467614; Resistance: 10mR; Tolerance: 1%; Power: 125mW
footprint RES SMD 0805
pins: 1, 2

## RES 0805 10mR 5%
designator C?, comment 10mR
125mW 10mR Thick Film Resistor 5% 0805 Chip Resistor - Surface Mount RoHS; Manufacturer: FOJAN; Manufacturer Part Number: FRL0805JR010TS; Supplier: LCSC; Supplier Part Number: C7467597; Resistance: 10mR; Tolerance: 5%; Power: 125mW
footprint RES SMD 0805
pins: 1, 2

## RES 0805 10R2 1%
designator C?, comment 10R2
125mW 10.2R 150V Thick Film Resistor 100ppm/â„ƒ 1% 0805 Chip Resistor - Surface Mount RoHS; Manufacturer: FOJAN; Manufacturer Part Number: FRC0805F10R2TS; Supplier: LCSC; Supplier Part Number: C22375118; Resistance: 10R2; Tolerance: 1%; Voltage Rating: 150V; Power: 125mW
footprint RES SMD 0805
pins: 1, 2

## RES 0805 10R5 1%
designator C?, comment 10R5
10.5R 1% 125mW 0805 Thick Film Resistor; Manufacturer: FOJAN; Manufacturer Part Number: FRC0805F10R5TS; Voltage Rating: 150V; Supplier: LCSC; Supplier Part Number: C2933285; Resistance: 10R5; Tolerance: 1%; Power: 125mW
footprint RES SMD 0805
pins: 1, 2

## RES 0805 10R 1%
designator C?, comment 10R
10R 1% 125mW 0805 Thick Film Resistor; Manufacturer: FOJAN; Manufacturer Part Number: FRC0805F10R0TS; Voltage Rating: 150V; Supplier: LCSC; Supplier Part Number: C2907220; Resistance: 10R; Tolerance: 1%; Power: 125mW
footprint RES SMD 0805
pins: 1, 2

## RES 0805 10R 5%
designator C?, comment 10R
10R 5% 125mW 0805 Thick Film Resistor AEC-Q200; Manufacturer: FOJAN; Manufacturer Part Number: FRQ0805J100 TS; Voltage Rating: 150V; Supplier: LCSC; Supplier Part Number: C2934402; Resistance: 10R; Tolerance: 5%; Power: 125mW
footprint RES SMD 0805
pins: 1, 2

## RES 0805 10R 5%_1
designator C?, comment 10R
10R 5% 125mW 0805 Thick Film Resistor; Manufacturer: FOJAN; Manufacturer Part Number: FRC0805J100 TS; Voltage Rating: 150V; Supplier: LCSC; Supplier Part Number: C2907296; Resistance: 10R; Tolerance: 5%; Power: 125mW
footprint RES SMD 0805
pins: 1, 2

## RES 0805 10R 5%_2
designator C?, comment 10R
10R 5% 125mW 0805 Thick Film Resistor; Manufacturer: FOJAN; Manufacturer Part Number: FRD0805J100 TS; Voltage Rating: 150V; Supplier: LCSC; Supplier Part Number: C2934135; Resistance: 10R; Tolerance: 5%; Power: 125mW
footprint RES SMD 0805
pins: 1, 2

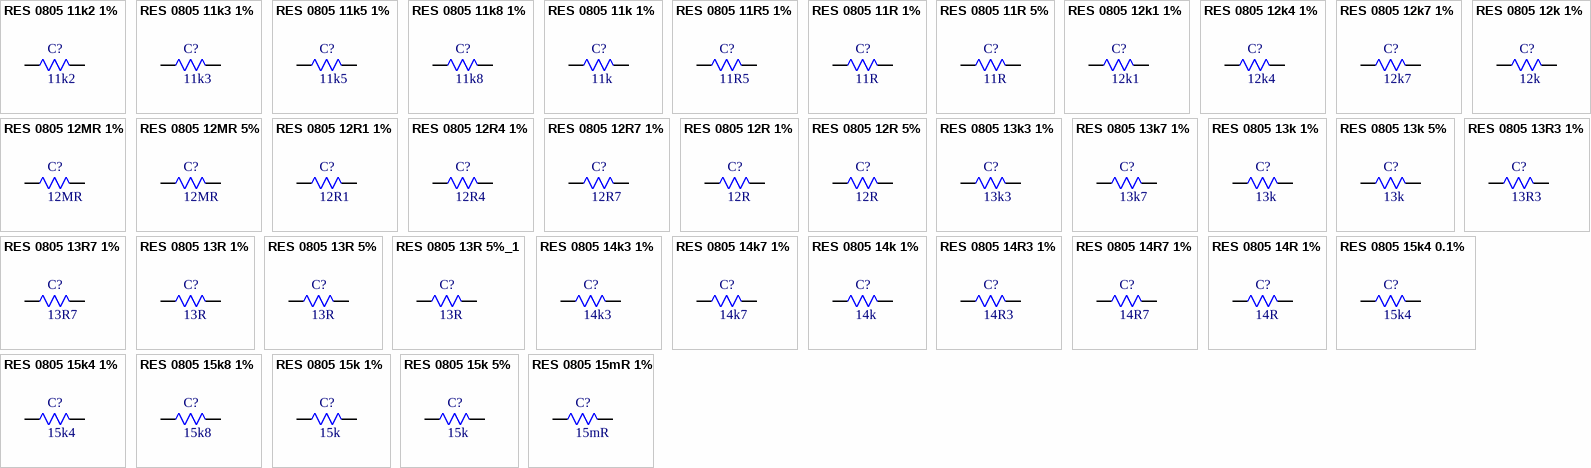
[diagram p43: symbols RES 0805 11k2 1% to RES 0805 15mR 1%]

## RES 0805 11k2 1%
designator C?, comment 11k2
11.2kR 1% 125mW 0805 Thick Film Resistor; Manufacturer: FOJAN; Manufacturer Part Number: FRC0805F1122TS; Voltage Rating: 150V; Supplier: LCSC; Supplier Part Number: C5159709; Resistance: 11k2; Tolerance: 1%; Power: 125mW
footprint RES SMD 0805
pins: 1, 2

## RES 0805 11k3 1%
designator C?, comment 11k3
11.3kR 1% 125mW 0805 Thick Film Resistor; Manufacturer: FOJAN; Manufacturer Part Number: FRC0805F1132TS; Voltage Rating: 150V; Supplier: LCSC; Supplier Part Number: C5126006; Resistance: 11k3; Tolerance: 1%; Power: 125mW
footprint RES SMD 0805
pins: 1, 2

## RES 0805 11k5 1%
designator C?, comment 11k5
11.5kR 1% 125mW 0805 Thick Film Resistor; Manufacturer: FOJAN; Manufacturer Part Number: FRC0805F1152TS; Voltage Rating: 150V; Supplier: LCSC; Supplier Part Number: C2933288; Resistance: 11k5; Tolerance: 1%; Power: 125mW
footprint RES SMD 0805
pins: 1, 2

## RES 0805 11k8 1%
designator C?, comment 11k8
11.8kR 1% 125mW 0805 Thick Film Resistor; Manufacturer: FOJAN; Manufacturer Part Number: FRC0805F1182TS; Voltage Rating: 150V; Supplier: LCSC; Supplier Part Number: C2933290; Resistance: 11k8; Tolerance: 1%; Power: 125mW
footprint RES SMD 0805
pins: 1, 2

## RES 0805 11k 1%
designator C?, comment 11k
11kR 1% 125mW 0805 Thick Film Resistor; Manufacturer: FOJAN; Manufacturer Part Number: FRC0805F1102TS; Voltage Rating: 150V; Supplier: LCSC; Supplier Part Number: C2907222; Resistance: 11k; Tolerance: 1%; Power: 125mW
footprint RES SMD 0805
pins: 1, 2

## RES 0805 11R5 1%
designator C?, comment 11R5
11.5R 1% 125mW 0805 Thick Film Resistor; Manufacturer: FOJAN; Manufacturer Part Number: FRC0805F11R5TS; Voltage Rating: 150V; Supplier: LCSC; Supplier Part Number: C2933292; Resistance: 11R5; Tolerance: 1%; Power: 125mW
footprint RES SMD 0805
pins: 1, 2

## RES 0805 11R 1%
designator C?, comment 11R
11R 1% 125mW 0805 Thick Film Resistor; Manufacturer: FOJAN; Manufacturer Part Number: FRC0805F11R0TS; Voltage Rating: 150V; Supplier: LCSC; Supplier Part Number: C2933291; Resistance: 11R; Tolerance: 1%; Power: 125mW
footprint RES SMD 0805
pins: 1, 2

## RES 0805 11R 5%
designator C?, comment 11R
11R 5% 125mW 0805 Thick Film Resistor; Manufacturer: FOJAN; Manufacturer Part Number: FRC0805J110TSD; Voltage Rating: 150V; Supplier: LCSC; Supplier Part Number: C2930237; Resistance: 11R; Tolerance: 5%; Power: 125mW
footprint RES SMD 0805
pins: 1, 2

## RES 0805 12k1 1%
designator C?, comment 12k1
12.1kR 1% 125mW 0805 Thick Film Resistor; Manufacturer: FOJAN; Manufacturer Part Number: FRC0805F1212TS; Voltage Rating: 150V; Supplier: LCSC; Supplier Part Number: C2933295; Resistance: 12k1; Tolerance: 1%; Power: 125mW
footprint RES SMD 0805
pins: 1, 2

## RES 0805 12k4 1%
designator C?, comment 12k4
12.4kR 1% 125mW 0805 Thick Film Resistor; Manufacturer: FOJAN; Manufacturer Part Number: FRC0805F1242TS; Voltage Rating: 150V; Supplier: LCSC; Supplier Part Number: C2933297; Resistance: 12k4; Tolerance: 1%; Power: 125mW
footprint RES SMD 0805
pins: 1, 2

## RES 0805 12k7 1%
designator C?, comment 12k7
12.7kR 1% 125mW 0805 Thick Film Resistor; Manufacturer: FOJAN; Manufacturer Part Number: FRC0805F1272TS; Voltage Rating: 150V; Supplier: LCSC; Supplier Part Number: C2933300; Resistance: 12k7; Tolerance: 1%; Power: 125mW
footprint RES SMD 0805
pins: 1, 2

## RES 0805 12k 1%
designator C?, comment 12k
12kR 1% 125mW 0805 Thick Film Resistor; Manufacturer: FOJAN; Manufacturer Part Number: FRC0805F1202TS; Voltage Rating: 150V; Supplier: LCSC; Supplier Part Number: C2907225; Resistance: 12k; Tolerance: 1%; Power: 125mW
footprint RES SMD 0805
pins: 1, 2

## RES 0805 12MR 1%
designator C?, comment 12MR
12MR 125mW Thick Film Resistor 1% 200ppm/â„ƒ 0805 Chip Resistor - Surface Mount RoHS; Manufacturer: FOJAN; Manufacturer Part Number: FRG0805F1205TS; Supplier: LCSC; Supplier Part Number: C22375085; Resistance: 12MR; Tolerance: 1%; Power: 125mW
footprint RES SMD 0805
pins: 1, 2

## RES 0805 12MR 5%
designator C?, comment 12MR
12MR 5% 125mW 0805 Thick Film Resistor; Manufacturer: FOJAN; Manufacturer Part Number: FRC0805J126 TS; Voltage Rating: 150V; Supplier: LCSC; Supplier Part Number: C3013233; Resistance: 12MR; Tolerance: 5%; Power: 125mW
footprint RES SMD 0805
pins: 1, 2

## RES 0805 12R1 1%
designator C?, comment 12R1
12.1R 1% 125mW 0805 Thick Film Resistor; Manufacturer: FOJAN; Manufacturer Part Number: FRC0805F12R1TS; Voltage Rating: 150V; Supplier: LCSC; Supplier Part Number: C3013211; Resistance: 12R1; Tolerance: 1%; Power: 125mW
footprint RES SMD 0805
pins: 1, 2

## RES 0805 12R4 1%
designator C?, comment 12R4
12.4R 1% 125mW 0805 Thick Film Resistor; Manufacturer: FOJAN; Manufacturer Part Number: FRC0805F12R4TS; Voltage Rating: 150V; Supplier: LCSC; Supplier Part Number: C5204008; Resistance: 12R4; Tolerance: 1%; Power: 125mW
footprint RES SMD 0805
pins: 1, 2

## RES 0805 12R7 1%
designator C?, comment 12R7
12.7R 1% 125mW 0805 Thick Film Resistor; Manufacturer: FOJAN; Manufacturer Part Number: FRC0805F12R7TS; Voltage Rating: 150V; Supplier: LCSC; Supplier Part Number: C2933302; Resistance: 12R7; Tolerance: 1%; Power: 125mW
footprint RES SMD 0805
pins: 1, 2

## RES 0805 12R 1%
designator C?, comment 12R
12R 1% 125mW 0805 Thick Film Resistor; Manufacturer: FOJAN; Manufacturer Part Number: FRC0805F12R0TS; Voltage Rating: 150V; Supplier: LCSC; Supplier Part Number: C2907226; Resistance: 12R; Tolerance: 1%; Power: 125mW
footprint RES SMD 0805
pins: 1, 2

## RES 0805 12R 5%
designator C?, comment 12R
12R 5% 125mW 0805 Thick Film Resistor; Manufacturer: FOJAN; Manufacturer Part Number: FRC0805J120 TS; Voltage Rating: 150V; Supplier: LCSC; Supplier Part Number: C2933519; Resistance: 12R; Tolerance: 5%; Power: 125mW
footprint RES SMD 0805
pins: 1, 2

## RES 0805 13k3 1%
designator C?, comment 13k3
13.3kR 1% 125mW 0805 Thick Film Resistor; Manufacturer: FOJAN; Manufacturer Part Number: FRC0805F1332TS; Voltage Rating: 150V; Supplier: LCSC; Supplier Part Number: C2930408; Resistance: 13k3; Tolerance: 1%; Power: 125mW
footprint RES SMD 0805
pins: 1, 2

## RES 0805 13k7 1%
designator C?, comment 13k7
13.7kR 1% 125mW 0805 Thick Film Resistor; Manufacturer: FOJAN; Manufacturer Part Number: FRC0805F1372TS; Voltage Rating: 150V; Supplier: LCSC; Supplier Part Number: C2933310; Resistance: 13k7; Tolerance: 1%; Power: 125mW
footprint RES SMD 0805
pins: 1, 2

## RES 0805 13k 1%
designator C?, comment 13k
13kR 1% 125mW 0805 Thick Film Resistor; Manufacturer: FOJAN; Manufacturer Part Number: FRC0805F1302TS; Voltage Rating: 150V; Supplier: LCSC; Supplier Part Number: C2933304; Resistance: 13k; Tolerance: 1%; Power: 125mW
footprint RES SMD 0805
pins: 1, 2

## RES 0805 13k 5%
designator C?, comment 13k
13kR 5% 125mW 0805 Thick Film Resistor; Manufacturer: FOJAN; Manufacturer Part Number: FRC0805J133TS; Voltage Rating: 150V; Supplier: LCSC; Supplier Part Number: C2930241; Resistance: 13k; Tolerance: 5%; Power: 125mW
footprint RES SMD 0805
pins: 1, 2

## RES 0805 13R3 1%
designator C?, comment 13R3
13.3R 1% 125mW 0805 Thick Film Resistor; Manufacturer: FOJAN; Manufacturer Part Number: FRC0805F13R3TS; Voltage Rating: 150V; Supplier: LCSC; Supplier Part Number: C2933314; Resistance: 13R3; Tolerance: 1%; Power: 125mW
footprint RES SMD 0805
pins: 1, 2

## RES 0805 13R7 1%
designator C?, comment 13R7
13.7R 1% 125mW 0805 Thick Film Resistor; Manufacturer: FOJAN; Manufacturer Part Number: FRC0805F13R7TS; Voltage Rating: 150V; Supplier: LCSC; Supplier Part Number: C2960685; Resistance: 13R7; Tolerance: 1%; Power: 125mW
footprint RES SMD 0805
pins: 1, 2

## RES 0805 13R 1%
designator C?, comment 13R
13R 1% 125mW 0805 Thick Film Resistor; Manufacturer: FOJAN; Manufacturer Part Number: FRC0805F13R0TS; Voltage Rating: 150V; Supplier: LCSC; Supplier Part Number: C2933313; Resistance: 13R; Tolerance: 1%; Power: 125mW
footprint RES SMD 0805
pins: 1, 2

## RES 0805 13R 5%
designator C?, comment 13R
13R 5% 125mW 0805 Thick Film Resistor; Manufacturer: FOJAN; Manufacturer Part Number: FRC0805J130 TS; Voltage Rating: 150V; Supplier: LCSC; Supplier Part Number: C2933522; Resistance: 13R; Tolerance: 5%; Power: 125mW
footprint RES SMD 0805
pins: 1, 2

## RES 0805 13R 5%_1
designator C?, comment 13R
13R 5% 125mW 0805 Thick Film Resistor; Manufacturer: FOJAN; Manufacturer Part Number: FRC0805J130TSD; Voltage Rating: 150V; Supplier: LCSC; Supplier Part Number: C2930242; Resistance: 13R; Tolerance: 5%; Power: 125mW
footprint RES SMD 0805
pins: 1, 2

## RES 0805 14k3 1%
designator C?, comment 14k3
14.3kR 1% 125mW 0805 Thick Film Resistor; Manufacturer: FOJAN; Manufacturer Part Number: FRC0805F1432TS; Voltage Rating: 150V; Supplier: LCSC; Supplier Part Number: C2933317; Resistance: 14k3; Tolerance: 1%; Power: 125mW
footprint RES SMD 0805
pins: 1, 2

## RES 0805 14k7 1%
designator C?, comment 14k7
14.7kR 1% 125mW 0805 Thick Film Resistor; Manufacturer: FOJAN; Manufacturer Part Number: FRC0805F1472TS; Voltage Rating: 150V; Supplier: LCSC; Supplier Part Number: C2933319; Resistance: 14k7; Tolerance: 1%; Power: 125mW
footprint RES SMD 0805
pins: 1, 2

## RES 0805 14k 1%
designator C?, comment 14k
14kR 1% 125mW 0805 Thick Film Resistor; Manufacturer: FOJAN; Manufacturer Part Number: FRC0805F1402TS; Voltage Rating: 150V; Supplier: LCSC; Supplier Part Number: C2930168; Resistance: 14k; Tolerance: 1%; Power: 125mW
footprint RES SMD 0805
pins: 1, 2

## RES 0805 14R3 1%
designator C?, comment 14R3
14.3R 1% 125mW 0805 Thick Film Resistor; Manufacturer: FOJAN; Manufacturer Part Number: FRC0805F14R3TS; Voltage Rating: 150V; Supplier: LCSC; Supplier Part Number: C2933322; Resistance: 14R3; Tolerance: 1%; Power: 125mW
footprint RES SMD 0805
pins: 1, 2

## RES 0805 14R7 1%
designator C?, comment 14R7
14.7R 1% 125mW 0805 Thick Film Resistor; Manufacturer: FOJAN; Manufacturer Part Number: FRC0805F14R7TS; Voltage Rating: 150V; Supplier: LCSC; Supplier Part Number: C2933323; Resistance: 14R7; Tolerance: 1%; Power: 125mW
footprint RES SMD 0805
pins: 1, 2

## RES 0805 14R 1%
designator C?, comment 14R
14R 1% 125mW 0805 Thick Film Resistor; Manufacturer: FOJAN; Manufacturer Part Number: FRC0805F14R0TS; Voltage Rating: 150V; Supplier: LCSC; Supplier Part Number: C2933321; Resistance: 14R; Tolerance: 1%; Power: 125mW
footprint RES SMD 0805
pins: 1, 2

## RES 0805 15k4 0.1%
designator C?, comment 15k4
125mW 15.4kR 150V Thick Film Resistor 0.1% 0805 Chip Resistor - Surface Mount RoHS; Manufacturer: FOJAN; Manufacturer Part Number: FRT0805B1542TSV; Supplier: LCSC; Supplier Part Number: C52033515; Resistance: 15k4; Tolerance: 0.1%; Voltage Rating: 150V; Power: 125mW
footprint RES SMD 0805
pins: 1, 2

## RES 0805 15k4 1%
designator C?, comment 15k4
15.4kR 1% 125mW 0805 Thick Film Resistor; Manufacturer: FOJAN; Manufacturer Part Number: FRC0805F1542TS; Voltage Rating: 150V; Supplier: LCSC; Supplier Part Number: C2930169; Resistance: 15k4; Tolerance: 1%; Power: 125mW
footprint RES SMD 0805
pins: 1, 2

## RES 0805 15k8 1%
designator C?, comment 15k8
15.8kR 1% 125mW 0805 Thick Film Resistor; Manufacturer: FOJAN; Manufacturer Part Number: FRC0805F1582TS; Voltage Rating: 150V; Supplier: LCSC; Supplier Part Number: C2933327; Resistance: 15k8; Tolerance: 1%; Power: 125mW
footprint RES SMD 0805
pins: 1, 2

## RES 0805 15k 1%
designator C?, comment 15k
15kR 1% 125mW 0805 Thick Film Resistor; Manufacturer: FOJAN; Manufacturer Part Number: FRC0805F1502TS; Voltage Rating: 150V; Supplier: LCSC; Supplier Part Number: C2930170; Resistance: 15k; Tolerance: 1%; Power: 125mW
footprint RES SMD 0805
pins: 1, 2

## RES 0805 15k 5%
designator C?, comment 15k
15kR 5% 125mW 0805 Thick Film Resistor; Manufacturer: FOJAN; Manufacturer Part Number: FRC0805J153 TS; Voltage Rating: 150V; Supplier: LCSC; Supplier Part Number: C2933528; Resistance: 15k; Tolerance: 5%; Power: 125mW
footprint RES SMD 0805
pins: 1, 2

## RES 0805 15mR 1%
designator C?, comment 15mR
125mW 15mR Thick Film Resistor 1% 0805 Chip Resistor - Surface Mount RoHS; Manufacturer: FOJAN; Manufacturer Part Number: FRL0805FR015TS; Supplier: LCSC; Supplier Part Number: C7467691; Resistance: 15mR; Tolerance: 1%; Power: 125mW
footprint RES SMD 0805
pins: 1, 2

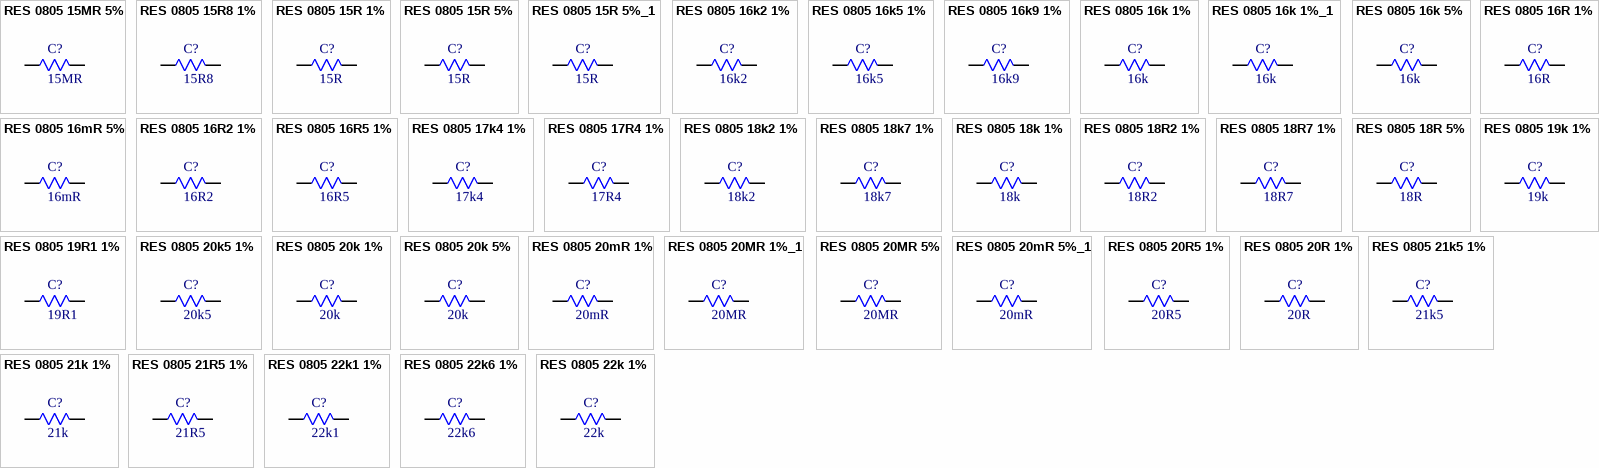
[diagram p44: symbols RES 0805 15MR 5% to RES 0805 22k 1%]

## RES 0805 15MR 5%
designator C?, comment 15MR
15MR 5% 125mW 0805 Thick Film Resistor; Manufacturer: FOJAN; Manufacturer Part Number: FRG0805J156TS; Voltage Rating: 150V; Supplier: LCSC; Supplier Part Number: C3000687; Resistance: 15MR; Tolerance: 5%; Power: 125mW
footprint RES SMD 0805
pins: 1, 2